# Altium schematic symbol library TPA6203A1.SchLib: 1 symbol
Pins are listed as number, name and electrical type; pins without a type are passive.

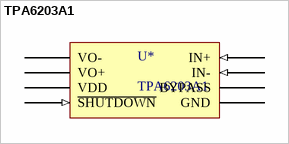
[diagram p0: symbol TPA6203A1]

## TPA6203A1
designator U*
footprint TPA6203A1 (1.25-W MONO FULLY DIFFERENTIAL AUDIO POWER AMPLIFIER)
pins: A1 VO- (power), A3 VDD (power), B1 ~{SHUTDOWN} (in), B2 GND (power), B3 VO+ (power), C1 BYPASS (power), C2 IN+ (in), C3 IN- (in)